# Altium footprint library Relay.PcbLib: 1 footprints
Each footprint in its own frame and in the unit in brackets; x right, y up, seen from the top. Pads: shape width x height; smd on the part's side, far side on the other; paste and mask are expansions set on the pad; w line width, h text height; cw(c..) or ccw(c..) is an arc to the next point about the centre after c.
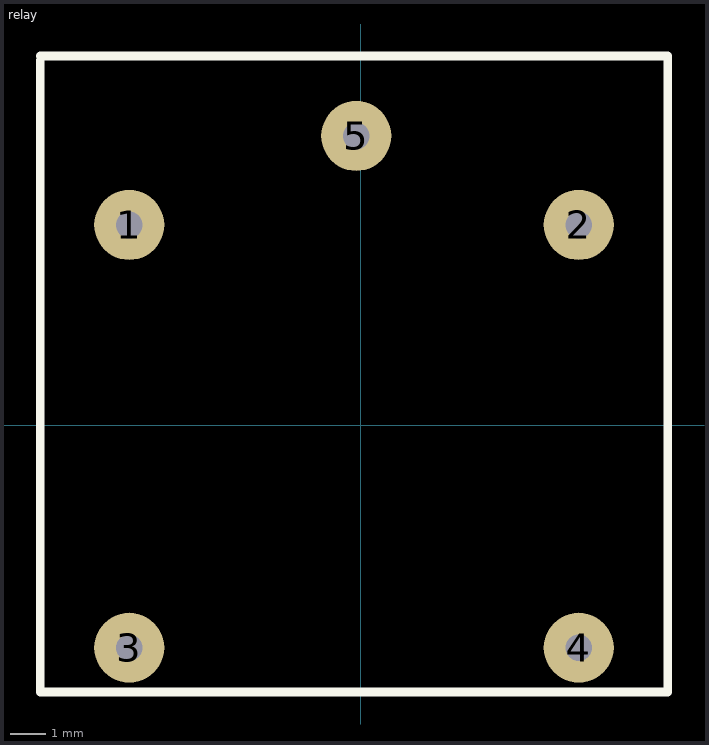
[diagram p0: the footprint, top view; thin cyan lines are the x and y axes]

## relay [mm]
pads (5):
  round 2 hole 0.762: 1(-6.604,5.715) 2(6.223,5.715) 3(-6.604,-6.35) 4(6.223,-6.35) 5(-0.127,8.255)
Top Overlay:
  lines w0.254: -9.144,10.414 -9.144,-7.62 8.763,-7.62 8.763,10.541 -9.144,10.541